# Altium footprint library Pushbutton.PcbLib: 1 footprints
Each footprint in its own frame and in the unit in brackets; x right, y up, seen from the top. Pads: shape width x height; smd on the part's side, far side on the other; paste and mask are expansions set on the pad; w line width, h text height; cw(c..) or ccw(c..) is an arc to the next point about the centre after c.
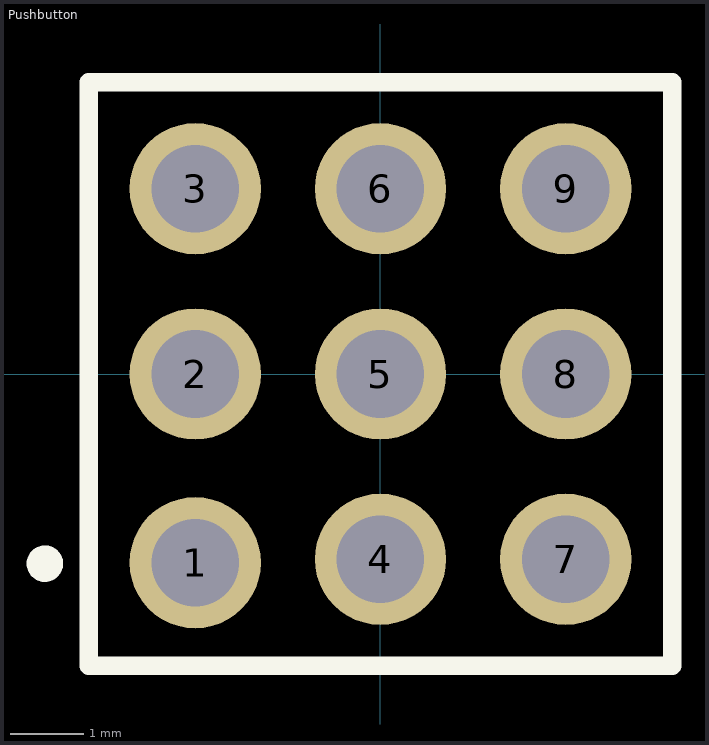
[diagram p0: the footprint, top view; thin cyan lines are the x and y axes]

## Pushbutton [mm]
pads (9):
  round 1.8 hole 1.2: 1(-2.54,-2.587) 2(-2.54,0) 3(-2.54,2.54) 4(0,-2.54) 5(0,0) 6(0,2.54) 7(2.54,-2.54) 8(2.54,0) 9(2.54,2.54)
Top Overlay:
  circle w0.25: c-4.6,-2.6 r0.125
  lines w0.254: -4,-4 4,-4 4,4 -4,4 -4,-4